# EAGLE library part USB-B-AB (library pixhawk2)
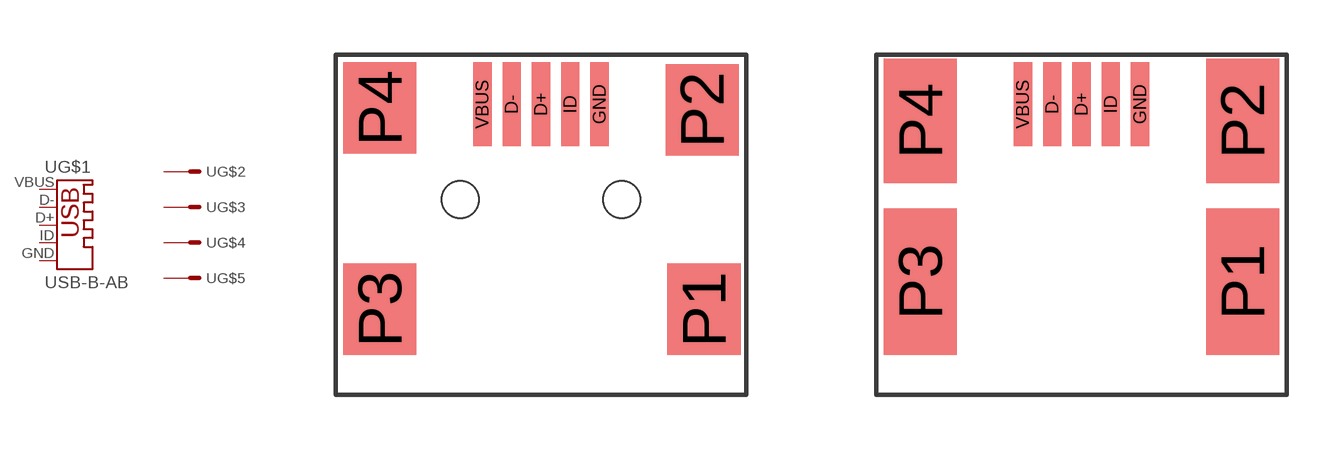
[diagram p62: symbol with the pads of QUALIFIED_1_USB-B-SMT; footprints QUALIFIED_1_USB-B-SMT, QUALIFIED_1_USB-MINI-AB-SMT]

Designator prefix -; gates G$1=QUALIFIED_1_USB G$2=QUALIFIED_1_M G$3=QUALIFIED_1_M G$4=QUALIFIED_1_M G$5=QUALIFIED_1_M

## USB-B-AB-MINI-SMT-LOCK  [QUALIFIED_1_USB-B-SMT]
D+  G$1:3_D+  pas
D-  G$1:2_D-  pas
GND  G$1:5_GND  pas
ID  G$1:4_ID  pas
P1  G$2:S  pas
P2  G$3:S  pas
P3  G$4:S  pas
P4  G$5:S  pas
VBUS  G$1:1_VBUS  pas

## USB-B-AB-MINI-AB-SMT  [QUALIFIED_1_USB-MINI-AB-SMT]
Pads as for QUALIFIED_1_USB-B-SMT

## USB-B-AB-MINI-SMT  [USB-MINI-B-SMT]
Pads as for QUALIFIED_1_USB-B-SMT

## USB-B-AB-MICRO-B-SMT  [MOLEX-47346-0001]
D+  G$1:3_D+  pas
D-  G$1:2_D-  pas
GND  G$1:5_GND  pas
GND1  G$2:S  pas
GND2  G$3:S  pas
GND3  G$4:S  pas
GND4  G$5:S  pas
ID  G$1:4_ID  pas
VBUS  G$1:1_VBUS  pas

## Footprint QUALIFIED_1_USB-B-SMT (pad centres in mm)
USB YAMAICHI CONNECTOR
smd 0.5 x 2.3: D+ 0,1.15; D- -0.8,1.15; GND 1.6,1.15; ID 0.8,1.15; VBUS -1.6,1.15
smd 2 x 2.5: P1 4.45,-4.45; P2 4.4,1; P3 -4.4,-4.45; P4 -4.4,1.05
hole 1.016 at -2.2,-1.45
hole 1.016 at 2.2,-1.45

## Footprint QUALIFIED_1_USB-MINI-AB-SMT (pad centres in mm)
smd 0.5 x 2.3: D+ 0,1.15; D- -0.8,1.15; GND 1.6,1.15; ID 0.8,1.15; VBUS -1.6,1.15
smd 2 x 4: P1 4.4,-3.7; P3 -4.4,-3.7
smd 2 x 3.4: P2 4.4,0.7; P4 -4.4,0.7

## Footprint USB-MINI-B-SMT (pad centres in mm)
smd 0.5 x 2.3: D+ 0,1.15; D- -0.8,1.15; GND 1.6,1.15; ID 0.8,1.15; VBUS -1.6,1.15
smd 2 x 4: P1 4.4,-3.7; P3 -4.4,-3.7
smd 2 x 3.4: P2 4.4,0.7; P4 -4.4,0.7

## Footprint MOLEX-47346-0001 (pad centres in mm)
smd 1.7 x 0.44: D+ 2.8,0; D- 2.8,0.65; GND 2.8,-1.3; ID 2.8,-0.65; VBUS 2.8,1.3
smd 1.9 x 2.375: GND1 0,2.95; GND4 0,-2.95
smd 2.1 x 1.475: GND2 2.3,2.5; GND3 2.3,-2.5
smd 1.9 x 1.175: GND5 0,-0.838; GND6 0,0.838